# Altium footprint library VBlib_Quartzes.PcbLib: 9 footprints
Each footprint in its own frame and in the unit in brackets; x right, y up, seen from the top. Pads: shape width x height; smd on the part's side, far side on the other; paste and mask are expansions set on the pad; w line width, h text height; cw(c..) or ccw(c..) is an arc to the next point about the centre after c.
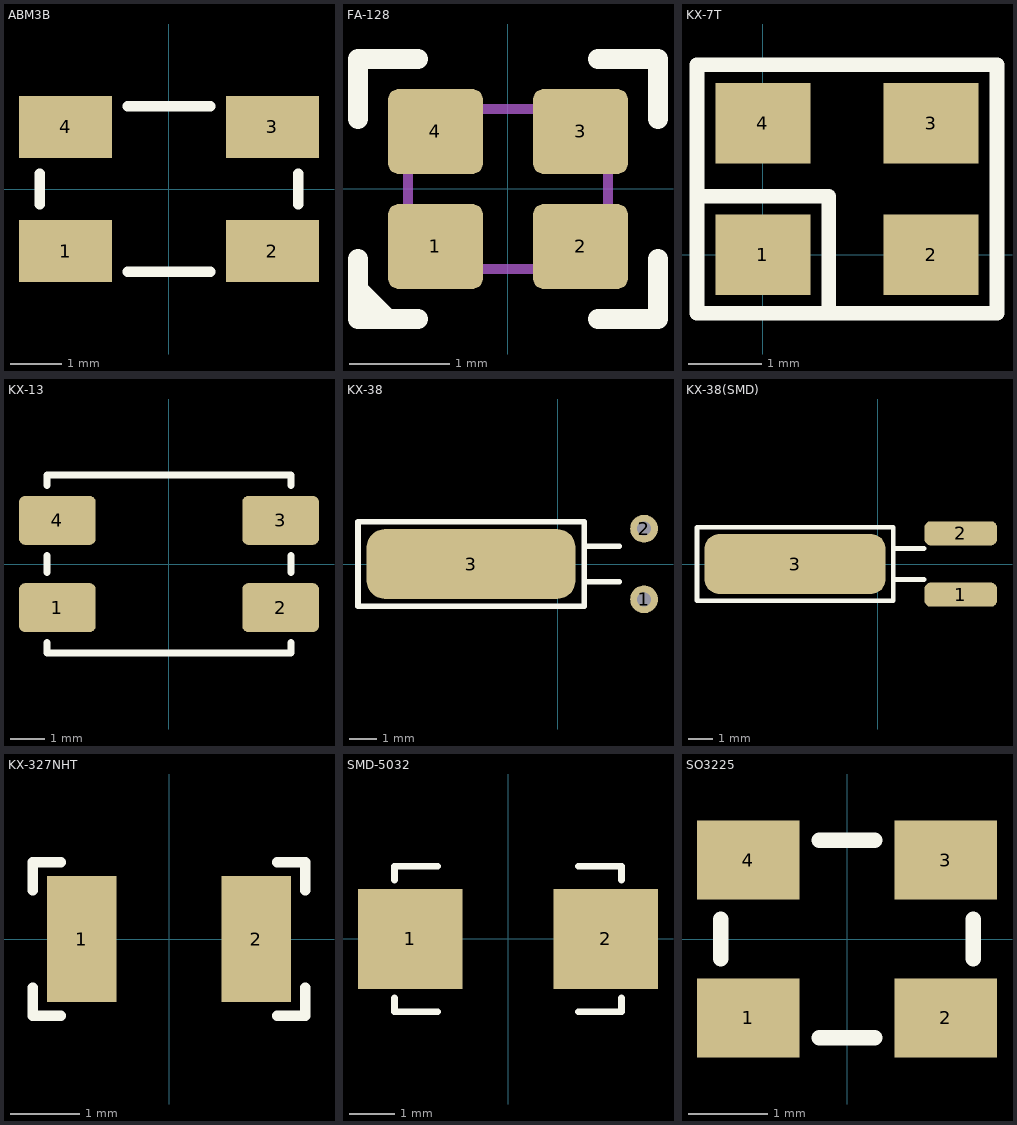
[diagram p0: the footprints below, top view; thin cyan lines are the x and y axes]

## ABM3B [mm] "Площадка для кварцевого резонатора Abracon, монтаж на поверхность 4 конт. Корпус 5х3.2мм."
height 1.1
pads (4):
  rect 1.8x1.2 smd: 1(-2,-1.2) 2(2,-1.2) 3(2,1.2) 4(-2,1.2)
Top Overlay:
  lines w0.2: -2.5,-0.3 -2.5,0.3 ; -0.8,-1.6 0.8,-1.6 ; -0.8,1.6 0.8,1.6 ; 2.5,-0.3 2.5,0.3
3D body: height 1.1, standoff 0, extent -2.4,-1.5 2.4,1.5

## FA-128 [mm] "Quarz Crystal"
height 0.5
pads (4):
  rrect25% 0.95x0.85 smd: 1(-0.725,-0.575) 2(0.725,-0.575) 3(0.725,0.575) 4(-0.725,0.575)
Top Overlay:
  lines w0.2: -1.5,-1 -1.2,-1.3 ; -1.5,-0.7 -1.5,-1.3 -0.9,-1.3 ; -1.5,0.7 -1.5,1.3 -0.9,1.3 ; 0.9,-1.3 1.5,-1.3 1.5,-0.7 ; 0.9,1.3 1.5,1.3 1.5,0.7
Mechanical 13:
  lines w0.1: -1,-0.8 -1,0.8 1,0.8 1,-0.8 -1,-0.8
3D body: height 0.5, standoff 0, extent -1,-0.8 1,0.8

## KX-7T [mm]
pads (4):
  rect 1.3x1.1 smd: 1(0,0) 2(2.3,0) 3(2.3,1.8) 4(0,1.8)
Top Overlay:
  lines w0.2: -0.8,0.8 0.9,0.8 0.9,-0.7 ; -0.9,-0.8 -0.9,2.6 3.2,2.6 3.2,-0.8 -0.3,-0.8 -0.9,-0.8

## KX-13 [mm] "Площадка для кварцевого резонатора Geyer KX-13, монтаж на поверхность 4 конт. Корпус 7х5мм."
height 1.3
pads (4):
  rrect25% 2.2x1.4 smd: 1(-3.2,-1.25) 2(3.2,-1.25) 3(3.2,1.25) 4(-3.2,1.25)
Top Overlay:
  lines w0.2: -3.5,-2.25 -3.5,-2.55 3.5,-2.55 3.5,-2.25 ; -3.5,-0.25 -3.5,0.25 ; -3.5,2.25 -3.5,2.55 3.5,2.55 3.5,2.25 ; 3.5,-0.25 3.5,0.25
3D body "GeyerElectronics_KX13.STEP": height 1.31, standoff 0, extent -3.5,-2.5 3.5,2.5

## KX-38 [mm] "Площадка для кварцевого резонатора типа 3х8мм"
height 3
pads (3):
  round 1 hole 0.5: 1(3.111,-1.27) 2(3.111,1.27)
  rrect50% 7.5x2.5 smd: 3(-3.111,0)
Top Overlay:
  lines w0.2: 0.953,-0.635 2.222,-0.635 ; 0.953,0.635 2.222,0.635 ; -7.175,-1.524 0.953,-1.524 0.953,1.524 -7.175,1.524 -7.175,-1.524
3D body "KX-38.STEP": height 3, standoff 0, extent -6.916,-1.5 2.984,1.5

## KX-38(SMD) [mm] "Площадка для кварцевого резонатора типа 3х8мм, монтаж на поверхность"
height 3
pads (3):
  rrect50% 3x1 smd: 1(3.429,-1.27) 2(3.429,1.27)
  rrect50% 7.5x2.5 smd: 3(-3.429,0)
Top Overlay:
  lines w0.2: 0.635,-0.635 1.905,-0.635 ; 0.635,0.635 1.905,0.635 ; -7.493,-1.524 0.635,-1.524 0.635,1.524 -7.493,1.524 -7.493,-1.524
3D body "KX-38.STEP": height 3, standoff 0, extent -7.233,-1.5 2.667,1.5

## KX-327NHT [mm] "KX-327NHT"
height 0.8
pads (2):
  rect 1x1.8 smd: 1(-1.25,0) 2(1.25,0)
Top Overlay:
  lines w0.15: -1.95,-0.7 -1.95,-1.1 -1.55,-1.1 ; -1.95,0.7 -1.95,1.1 -1.55,1.1 ; 1.55,-1.1 1.95,-1.1 1.95,-0.7 ; 1.55,1.1 1.95,1.1 1.95,0.7
3D body: height 1, standoff 0, extent -1.85,-1 1.85,1

## SMD-5032 [mm] "SMD-5032"
height 0.9
pads (2):
  rect 2.3x2.2 smd: 1(-2.15,0) 2(2.15,0)
Top Overlay:
  lines w0.15: -2.5,-1.3 -2.5,-1.6 -1.55,-1.6 ; -2.5,1.3 -2.5,1.6 -1.55,1.6 ; 1.55,-1.6 2.5,-1.6 2.5,-1.3 ; 1.55,1.6 2.5,1.6 2.5,1.3
3D body: height 1, standoff 0, extent -2.5,-1.6 2.5,1.6

## SO3225 [mm] "Площадка для кварцевого резонатора Abracon, монтаж на поверхность 4 конт. Корпус 5х3.2мм."
height 1.2
pads (4):
  rect 1.3x1 smd: 1(-1.25,-1) 2(1.25,-1) 3(1.25,1) 4(-1.25,1)
Top Overlay:
  lines w0.2: -1.6,-0.25 -1.6,0.25 ; -0.35,-1.25 0.35,-1.25 ; -0.35,1.25 0.35,1.25 ; 1.6,-0.25 1.6,0.25
3D body: height 1.1, standoff 0, extent -1.6,-1.25 1.6,1.25